# Altium schematic symbol library IC_NXP_PCA9548ABS,118_I2C_8Channel.SchLib: 1 symbol
Pins are listed as number, name and electrical type; pins without a type are passive.

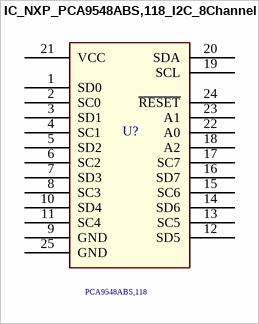
[diagram p0: symbol IC_NXP_PCA9548ABS,118_I2C_8Channel]

## IC_NXP_PCA9548ABS,118_I2C_8Channel
designator U?  Series: PCA9548ABS,118  (hidden comment: IC_NXP_PCA9548ABS,118_I2C_8Channel)
Multiplexer Switch ICs 8CH I2C SWTCH W/REST; Supplier Part Number 1: 771-PCA9548ABS118; Supplier 1: Mouser
footprint IC_NXP_PCA9548ABS,118_I2C_8Channel
pins: 1 SD0, 2 SC0, 3 SD1, 4 SC1, 5 SD2, 6 SC2, 7 SD3, 8 SC3, 9 GND, 10 SD4, 11 SC4, 12 SD5, 13 SC5, 14 SD6, 15 SC6, 16 SD7, 17 SC7, 18 A2, 19 SCL, 20 SDA, 21 VCC, 22 A0, 23 A1, 24 ~{RESET}, 25 GND